# Altium footprint library ECE453.PcbLib: 26 footprints (part 2 of 2)
Each footprint in its own frame and in the unit in brackets; x right, y up, seen from the top. Pads: shape width x height; smd on the part's side, far side on the other; paste and mask are expansions set on the pad; w line width, h text height; cw(c..) or ccw(c..) is an arc to the next point about the centre after c.
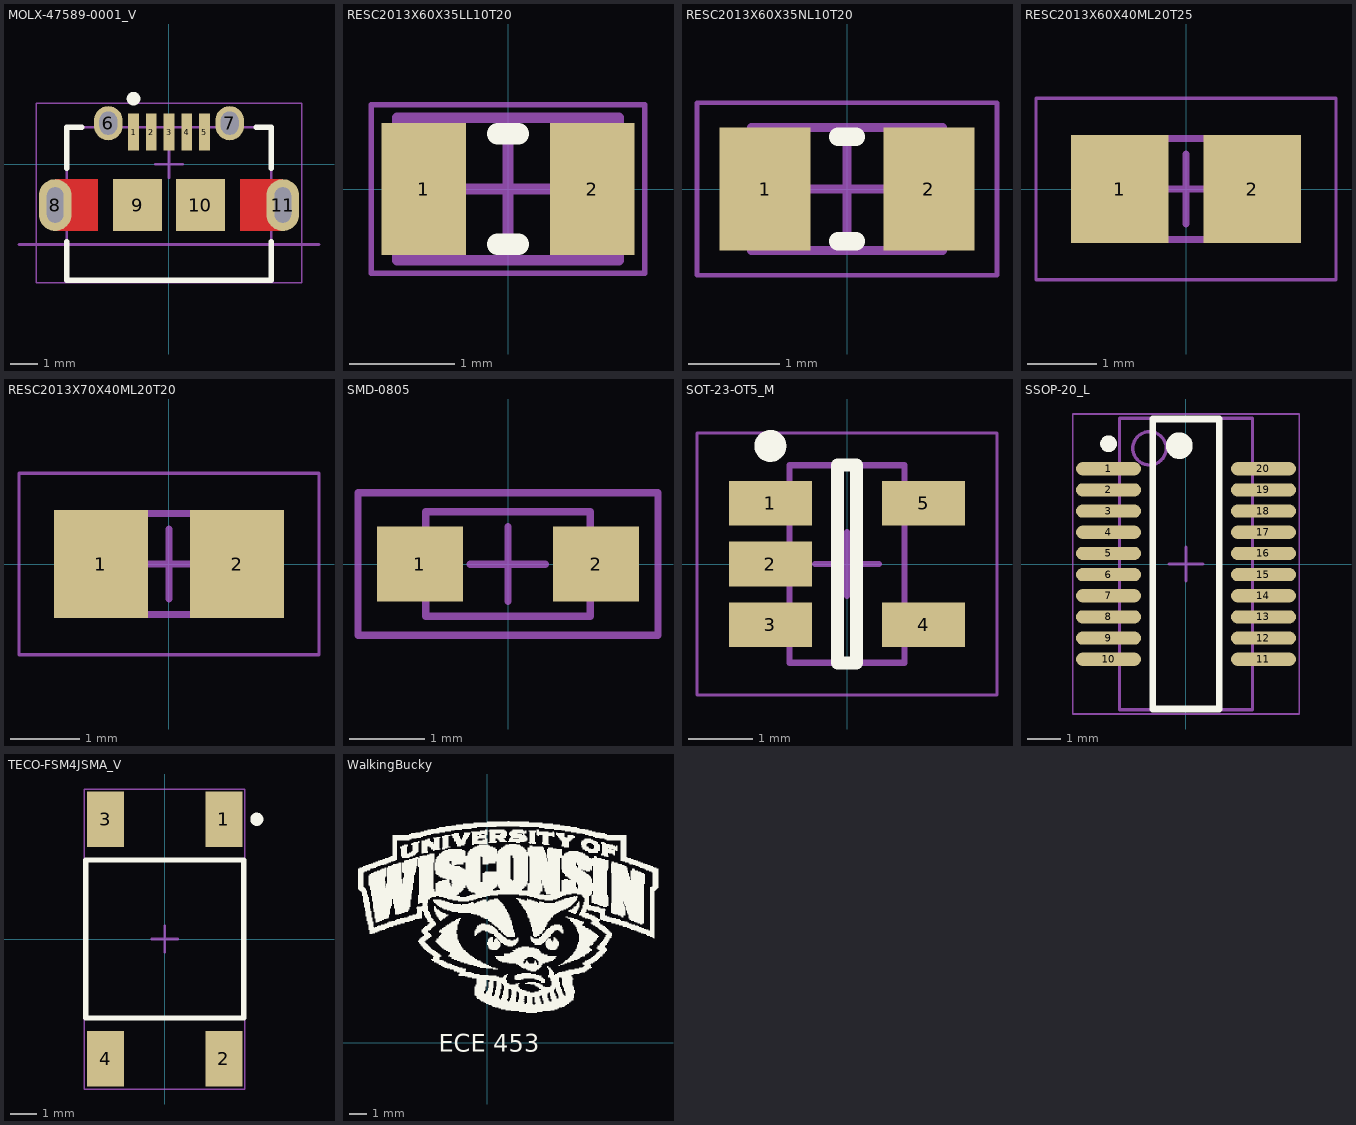
[diagram p1: the footprints below, top view; thin cyan lines are the x and y axes]

## MOLX-47589-0001_V [mm]
pads (11):
  rect 0.4x1.35 smd: 1(-1.3,1.175) 2(-0.65,1.175) 3(0,1.175) 4(0.65,1.175) 5(1.3,1.175)
  oval 1.05x1.25 hole 0.65 slot 0.85 at 90 deg: 6(-2.225,1.5) 7(2.225,1.5)
  oval 1.2x1.9 hole 0.6 slot 1.3 at 90 deg: 8(-4.175,-1.5) 11(4.175,-1.5)
  rect 1.8x1.9 smd: 9(-1.15,-1.5) 10(1.15,-1.5)
Top Layer:
  region: -2.6,-0.55 -4.175,-0.55 -4.175,-2.45 -2.6,-2.45
  rectangle: 2.6,-2.45 4.175,-0.55
Top Overlay:
  circle w0.25: c-1.3,2.4 r0.125
  lines w0.2: -3.75,-2.85 -3.75,-4.25 3.75,-4.25 3.75,-2.85 ; -3.75,-0.15 -3.75,1.35 -3.2,1.35 ; 3.2,1.35 3.75,1.35 3.75,-0.15
Mechanical 1:
  lines w0.1: -5.5,-2.95 5.5,-2.95
  text "PCB EDGE" at 5.7,-2.5 h0.89
Mechanical 13:
  lines w0.1: -3.75,-4.25 -3.75,1.35 3.75,1.35 3.75,-4.25 -3.75,-4.25
Mechanical 15:
  lines w0.05: -4.875,-4.35 4.875,-4.35 4.875,2.225 -4.875,2.225 -4.875,-4.35
  lines w0.1: -0.5,0 0.5,0 ; 0,-0.5 0,0.5
3D body "475890001.stp": height 2.74, standoff -0.57, extent -4.325,-4.25 4.325,1.644

## RESC2013X60X35LL10T20 [mm]
pads (2):
  rect 0.8x1.25 smd: 1(-0.8,0) 2(0.8,0)
Top Overlay:
  lines w0.2: -0.1,-0.525 0.1,-0.525 ; -0.1,0.525 0.1,0.525
Mechanical 13:
  lines w0.1: -1.05,-0.675 -1.05,0.675 1.05,0.675 1.05,-0.675 -1.05,-0.675
Mechanical 15:
  lines w0.05: -1.3,-0.8 -1.3,0.8 1.3,0.8 1.3,-0.8 -1.3,-0.8
  lines w0.1: -0.5,0 0.5,0 ; 0,-0.5 0,0.5
3D body "RESC2012X06N.step": height 0.6, standoff 0, extent -1.05,-0.675 1.05,0.675

## RESC2013X60X35NL10T20 [mm]
pads (2):
  rect 1x1.35 smd: 1(-0.9,0) 2(0.9,0)
Top Overlay:
  lines w0.2: -0.1,-0.575 0.1,-0.575 ; -0.1,0.575 0.1,0.575
Mechanical 13:
  lines w0.1: -1.05,-0.675 -1.05,0.675 1.05,0.675 1.05,-0.675 -1.05,-0.675
Mechanical 15:
  lines w0.05: -1.65,-0.95 -1.65,0.95 1.65,0.95 1.65,-0.95 -1.65,-0.95
  lines w0.1: -0.5,0 0.5,0 ; 0,-0.5 0,0.5
3D body "RESC2012X06N.step": height 0.6, standoff 0, extent -1.05,-0.675 1.05,0.675

## RESC2013X60X40ML20T25 [mm]
pads (2):
  rect 1.4x1.55 smd: 1(-0.95,0) 2(0.95,0)
Mechanical 13:
  lines w0.1: -1.1,-0.725 -1.1,0.725 1.1,0.725 1.1,-0.725 -1.1,-0.725
Mechanical 15:
  lines w0.05: -2.15,-1.3 -2.15,1.3 2.15,1.3 2.15,-1.3 -2.15,-1.3
  lines w0.1: -0.5,0 0.5,0 ; 0,-0.5 0,0.5
3D body: height 0.6, standoff 0, extent -0.7,-0.725 0.7,0.725
3D body: height 0.6, standoff 0, extent -1.1,-0.725 -0.7,0.725
3D body: height 0.6, standoff 0, extent 0.7,-0.725 1.1,0.725

## RESC2013X70X40ML20T20 [mm]
pads (2):
  rect 1.35x1.55 smd: 1(-0.975,0) 2(0.975,0)
Mechanical 13:
  lines w0.1: -1.1,-0.725 1.1,-0.725 1.1,0.725 -1.1,0.725 -1.1,-0.725
Mechanical 15:
  lines w0.05: -2.15,-1.3 2.15,-1.3 2.15,1.3 -2.15,1.3 -2.15,-1.3
  lines w0.1: -0.5,0 0.5,0 ; 0,-0.5 0,0.5
3D body: height 0.7, standoff 0, extent 0.7,-0.725 1.1,0.725
3D body: height 0.7, standoff 0, extent -1.1,-0.725 -0.7,0.725
3D body: height 0.7, standoff 0, extent -0.7,-0.725 0.7,0.725

## SMD-0805 [mm]
pads (2):
  rect 1.15x1 smd: 1(-1.175,0) 2(1.175,0)
Mechanical 13:
  lines w0.1: -1.1,-0.7 1.1,-0.7 1.1,0.7 -1.1,0.7 -1.1,-0.7
Mechanical 15:
  lines w0.1: -0.5,0 0.5,0 ; 0,-0.5 0,0.5 ; -2,-0.95 2,-0.95 2,0.95 -2,0.95 -2,-0.95
3D body "74279201.stp": height 0.89, standoff -0.01, extent -1,-0.6 1,0.6

## SOT-23-OT5_M [mm]
pads (5):
  rect 1.3x0.7 smd: 1(-1.2,0.95) 2(-1.2,0) 3(-1.2,-0.95) 4(1.2,-0.95) 5(1.2,0.95)
Top Overlay:
  circle w0.25: c-1.2,1.85 r0.125
  lines w0.2: -0.15,-1.55 -0.15,1.55 0.15,1.55 0.15,-1.55 -0.15,-1.55
Mechanical 13:
  lines w0.1: -0.9,-1.55 0.9,-1.55 0.9,1.55 -0.9,1.55 -0.9,-1.55
Mechanical 15:
  lines w0.05: -2.35,-2.05 2.35,-2.05 2.35,2.05 -2.35,2.05 -2.35,-2.05
  lines w0.1: -0.5,0 0.5,0 ; 0,-0.5 0,0.5
3D body: height 1.45, standoff 0, extent -0.9,-1.55 0.9,1.55

## SSOP-20_L [mm]
pads (20):
  oval 1.95x0.4 smd: 1(-2.325,2.857) 2(-2.325,2.222) 3(-2.325,1.587) 4(-2.325,0.953) 5(-2.325,0.318) 6(-2.325,-0.318) 7(-2.325,-0.953) 8(-2.325,-1.587) 9(-2.325,-2.222) 10(-2.325,-2.857) 11(2.325,-2.857) 12(2.325,-2.222) 13(2.325,-1.587) 14(2.325,-0.953) 15(2.325,-0.318) 16(2.325,0.318) 17(2.325,0.953) 18(2.325,1.587) 19(2.325,2.222) 20(2.325,2.857)
Top Overlay:
  circle w0.4: c-0.2,3.55 r0.2
  circle w0.25: c-2.325,3.608 r0.125
  lines w0.2: -1,-4.35 1,-4.35 1,4.35 -1,4.35 -1,-4.35
Mechanical 13:
  circle w0.1: c-1.095,3.47 r0.5
  lines w0.1: -1.995,-4.37 1.995,-4.37 1.995,4.37 -1.995,4.37 -1.995,-4.37
Mechanical 15:
  lines w0.05: -3.4,-4.5 3.4,-4.5 3.4,4.5 -3.4,4.5 -3.4,-4.5
  lines w0.1: -0.5,0 0.5,0 ; 0,-0.5 0,0.5
3D body: height 1.76, standoff 0.1, extent -1.995,-4.37 1.995,4.37

## TECO-FSM4JSMA_V [mm]
pads (4):
  rect 1.4x2.1 smd: 1(2.25,4.55) 2(2.25,-4.55) 3(-2.25,4.55) 4(-2.25,-4.55)
Top Overlay:
  circle w0.25: c3.5,4.55 r0.125
  lines w0.2: -3,-3 -3,3 3,3 3,-3 -3,-3
Mechanical 13:
  lines w0.1: -3,-3 3,-3 3,3 -3,3 -3,-3
Mechanical 15:
  lines w0.05: -3.05,-5.7 3.05,-5.7 3.05,5.7 -3.05,5.7 -3.05,-5.7
  lines w0.1: -0.5,0 0.5,0 ; 0,-0.5 0,0.5
3D body "c-4-1437565-2-s-3d.stp": height 5.08, standoff 0, extent -3,-5 3,5

## WalkingBucky [mm]
Top Overlay:
  drawing of 2083 lines, arcs and shapes, not listed
  text "ECE 453" at -2.794,-0.508 h1.02